# EAGLE library part 74FCT373A (library a3640_edu_v0.1)
74FCT373A PARA A3640
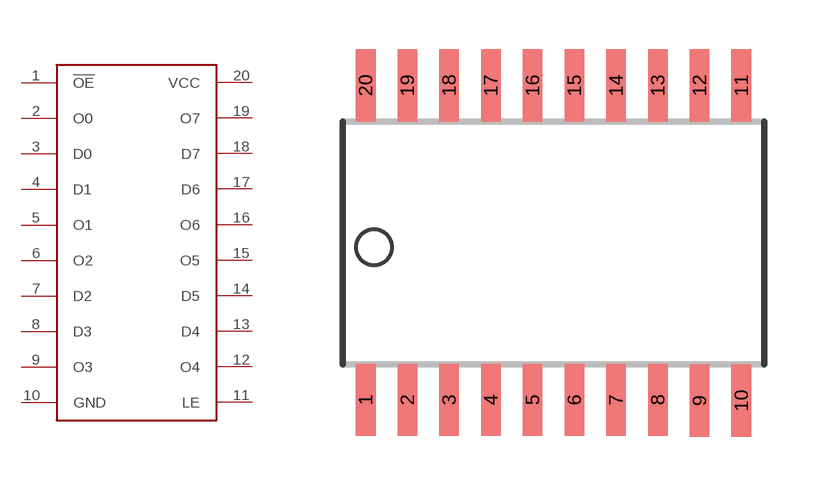
[diagram p2: symbol with the pads of 74FCT373A; footprint 74FCT373A]

Designator prefix -

## 74FCT373A  [74FCT373A]
1  !OE
2  O0
3  D0
4  D1
5  O1
6  O2
7  D2
8  D3
9  O3
10  GND
11  LE
12  O4
13  D4
14  D5
15  O5
16  O6
17  D6
18  D7
19  O7
20  VCC

## Footprint 74FCT373A (pad centres in mm)
smd 0.6 x 2.2: 1 -6.985,-4.775; 2 -5.715,-4.775; 3 -4.445,-4.775; 4 -3.175,-4.775; 5 -1.905,-4.775; 6 -0.635,-4.775; 7 0.635,-4.775; 8 1.905,-4.775; 9 3.175,-4.8; 10 4.445,-4.8; 11 4.445,4.8; 12 3.175,4.8; 13 1.905,4.8; 14 0.635,4.8; 15 -0.635,4.8; 16 -1.905,4.8; 17 -3.175,4.8; 18 -4.445,4.8; 19 -5.715,4.8; 20 -6.985,4.8